# EAGLE library part DMMT5551-7-F (library Diodes_Inc_By_element14_Batch_1)
MATCHED NPN SMALL SIGNAL SURFACE MOUNT TRANSISTOR
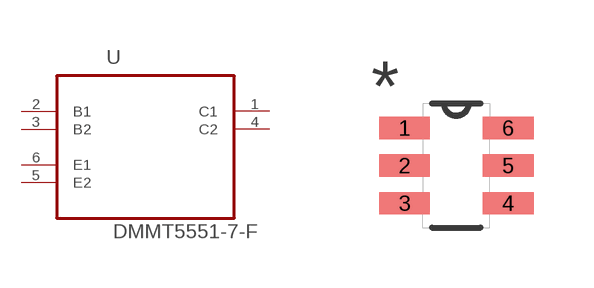
[diagram p22: symbol with the pads of SOT95P280X140-6N; footprint SOT95P280X140-6N]

Designator prefix U

## DMMT5551-7-F (MPN: DMMT5551-7-F; OC_FARNELL: 1773612; OC_NEWARK: 51R6459; PACKAGE: SOT-563-6; SUPPLIER: Diodes Inc)  [SOT95P280X140-6N]
1  C1  pas
2  B1  pas
3  B2  pas
4  C2  pas
5  E2  pas
6  E1  pas

## Footprint SOT95P280X140-6N (pad centres in mm)
smd 1.27 x 0.559: 1 -1.295,0.94; 2 -1.295,0; 3 -1.295,-0.94; 4 1.295,-0.94; 5 1.295,0; 6 1.295,0.94